# Altium footprint library Common-Parts-Library.PcbLib: 530 footprints (part 32 of 34)
Each footprint in its own frame and in the unit in brackets; x right, y up, seen from the top. Pads: shape width x height; smd on the part's side, far side on the other; paste and mask are expansions set on the pad; w line width, h text height; cw(c..) or ccw(c..) is an arc to the next point about the centre after c.
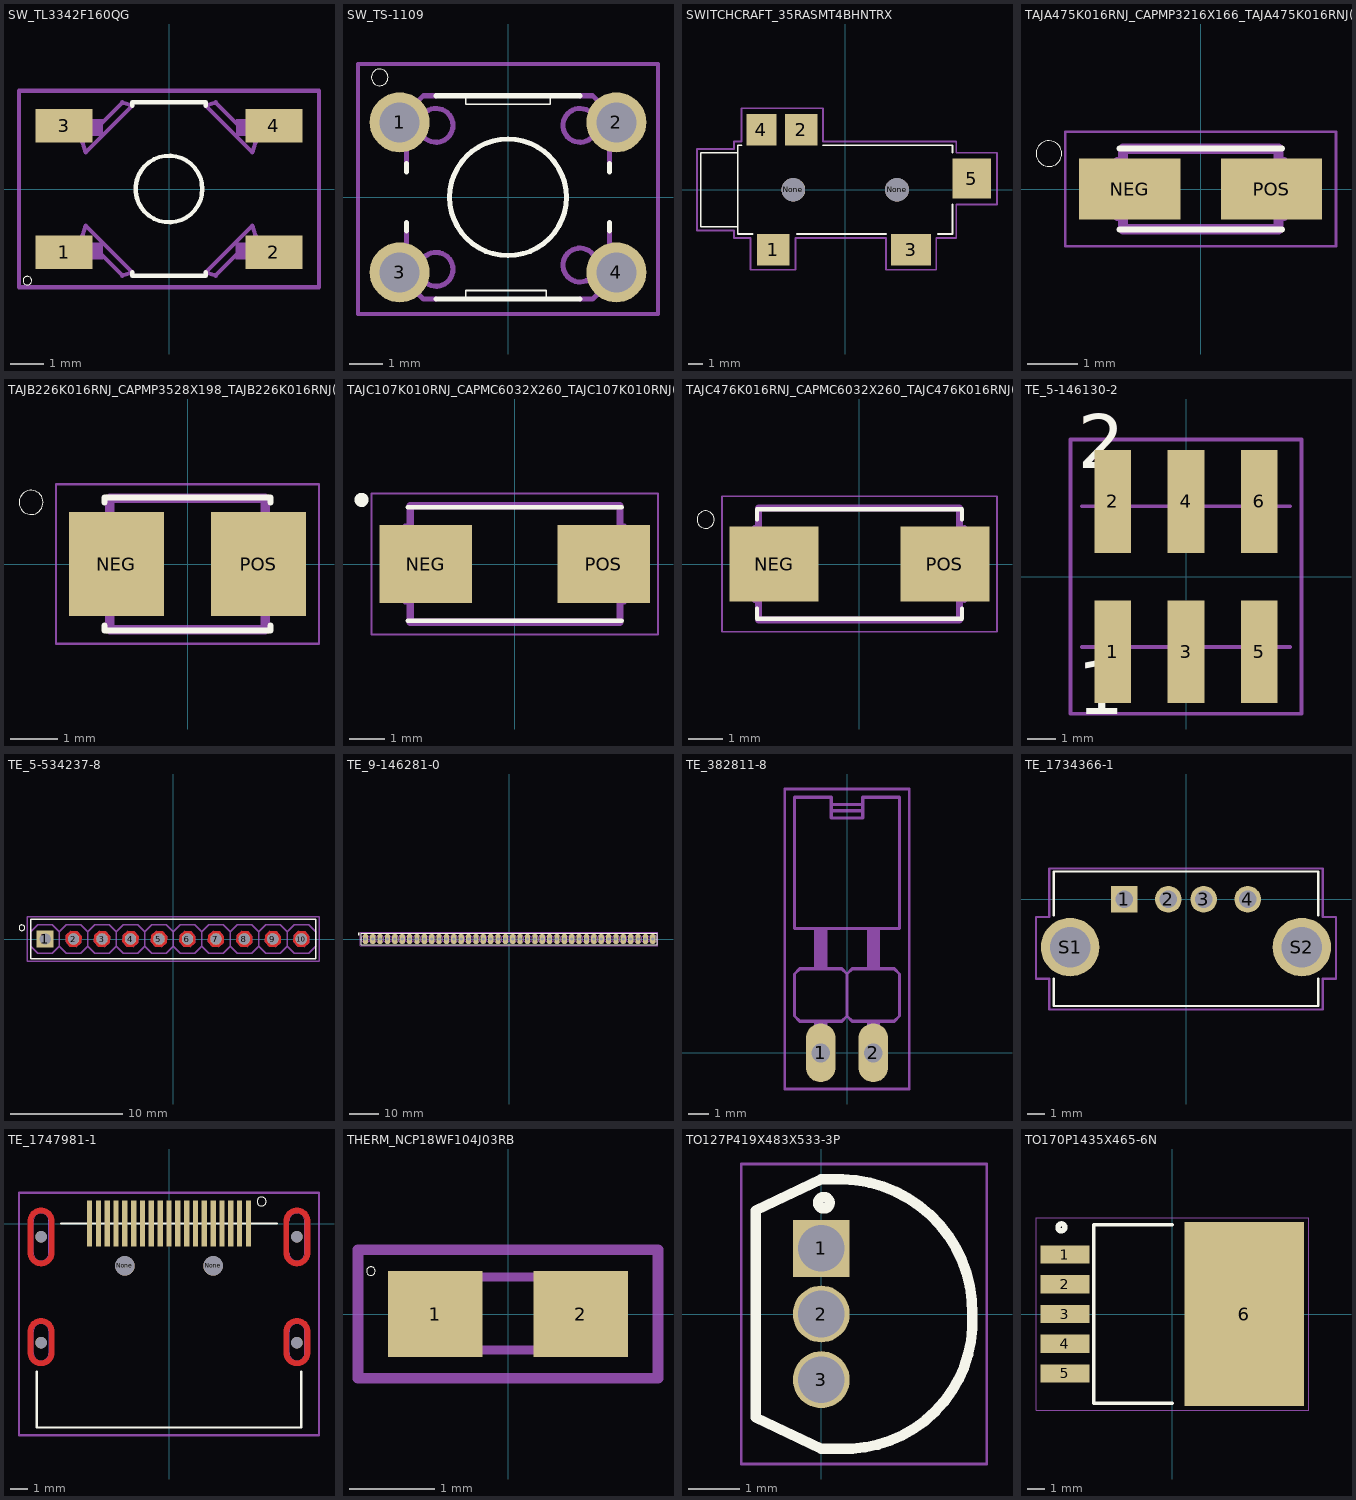
[diagram p31: the footprints below, top view; thin cyan lines are the x and y axes]

## SW_TL3342F160QG [mm]
pads (4):
  rect 1.7x1 smd: 1(-3.15,-1.9) 2(3.15,-1.9) 3(-3.15,1.9) 4(3.15,1.9)
Top Overlay:
  circle w0: c-4.25,-2.75 r0.127
  circle w0.127: c0,0 r1
  lines w0.127: -1.1,-2.5 -1.1,-2.6 1.1,-2.6 1.1,-2.5 ; -1.1,2.5 -1.1,2.6 1.1,2.6 1.1,2.5
Mechanical 1:
  region: 2.007,-1.605 3.205,-1.605 3.205,-2.107 2.007,-2.107
  region: -3.197,-1.605 -1.995,-1.605 -1.995,-2.106 -3.197,-2.106
  region: 2.01,2.095 3.205,2.095 3.205,1.599 2.01,1.599
  region: -3.204,2.095 -1.995,2.095 -1.995,1.599 -3.204,1.599
  lines w0.127: -4.5,-2.95 -4.5,2.95 4.5,2.95 4.5,-2.95 -4.5,-2.95 ; -2.6,-1.4 -2.5,-1.1 -1.1,-2.5 -1.4,-2.6 -2.6,-1.4 ; -2.6,1.4 -2.5,1.1 -1.1,2.5 -1.4,2.6 -2.6,1.4 ; 1.1,-2.5 1.4,-2.6 2.6,-1.4 2.5,-1.1 1.1,-2.5 ; 1.1,2.5 1.4,2.6 2.6,1.4 2.5,1.1 1.1,2.5

## SW_TS-1109 [mm]
pads (4):
  round 1.8 hole 1.2: 1(-3.25,2.25) 2(3.25,2.25) 3(-3.25,-2.25) 4(3.25,-2.25)
Top Overlay:
  circle w0: c-3.85,3.6 r0.25
  circle w0.152: c0,0 r1.75
  lines w0.051: -1.27,-3.048 -1.27,-2.794 1.143,-2.794 1.143,-3.048 ; -1.27,3.048 -1.27,2.794 1.27,2.794 1.27,3.048
  lines w0.152: -3.048,-1.016 -3.048,-0.762 ; -3.048,0.762 -3.048,1.016 ; -2.159,-3.048 -1.27,-3.048 1.143,-3.048 2.159,-3.048 ; -2.159,3.048 -1.27,3.048 1.27,3.048 2.159,3.048 ; 3.048,-1.016 3.048,-0.762 ; 3.048,0.762 3.048,1.016
Mechanical 1:
  circle w0.152: c-2.159,2.159 r0.508
  circle w0.152: c2.159,2.159 r0.508
  circle w0.152: c2.159,-2.032 r0.508
  circle w0.152: c-2.159,-2.159 r0.508
  lines w0.127: -4.5,-3.5 -4.5,4 4.5,4 4.5,-3.5 -4.5,-3.5
  lines w0.152: -3.048,-1.016 -3.048,-2.54 -2.54,-3.048 -2.159,-3.048 ; -3.048,1.016 -3.048,2.54 -2.54,3.048 -2.159,3.048 ; 2.159,-3.048 2.54,-3.048 3.048,-2.54 3.048,-1.016 ; 2.159,3.048 2.54,3.048 3.048,2.54 3.048,1.016

## SWITCHCRAFT_35RASMT4BHNTRX [mm]
pads (7):
  rect 2.2x2.1 smd: 1(-4.85,-4.05) 2(-2.95,4.05)
  rect 2.7x2.1 smd: 3(4.45,-4.05)
  rect 2x2.1 smd: 4(-5.65,4.05)
  rect 2.6x2.7 smd: 5(8.55,0.75)
  round 1.6 hole 1.6 unplated: None(-3.5,0) None(3.5,0)
Top Overlay:
  lines w0.127: -7,3 -7.25,3 -7.25,2.5 ; -6.25,-3 -7.25,-3 -7.25,-2.5 ; -3.25,-3 2.75,-3 ; -1.5,3 7.25,3 7.25,2.5 ; 6.25,-3 7.25,-3 7.25,-1 ; -7.25,-2.5 -9.75,-2.5 -9.75,2.5 -7.25,2.5 ; -7.25,-2.5 -7.25,2.5
Mechanical 1:
  lines w0.127: -10,-2.75 -10,2.75 -7.5,2.75 -7.5,3.25 -7,3.25 -7,5.5 -1.5,5.5 -1.5,3.25 7.5,3.25 7.5,2.5 10.25,2.5 10.25,-1 7.5,-1 7.5,-3.25 6.15,-3.25 6.15,-5.4 2.75,-5.4 2.75,-3.25 -3.35,-3.25 -3.35,-5.4 -6.4,-5.4 -6.4,-3.25 -7.5,-3.25 -7.5,-2.75 -10,-2.75

## TAJA475K016RNJ_CAPMP3216X166_TAJA475K016RNJ(Primary) [mm]
pads (2):
  rect 2x1.2 smd: NEG(-1.4,0) POS(1.4,0)
Top Overlay:
  circle w0: c-3,0.7 r0.254
  lines w0.127: -1.6,-0.8 1.6,-0.8 ; -1.6,0.8 1.6,0.8
Mechanical 1:
  lines w0.051: -2.673,-1.133 -2.673,1.133 2.673,1.133 2.673,-1.133 -2.673,-1.133
  lines w0.152: -1.651,-0.559 -1.651,0.559 ; 1.651,-0.559 1.651,0.559
  lines w0.203: -1.535,-0.798 1.535,-0.798 1.535,0.798 -1.535,0.798 -1.535,-0.798

## TAJB226K016RNJ_CAPMP3528X198_TAJB226K016RNJ(Primary) [mm]
pads (2):
  rect 2x2.2 smd: NEG(-1.5,0) POS(1.5,0)
Top Overlay:
  circle w0: c-3.3,1.3 r0.254
  lines w0.127: -1.75,-1.3 -1.75,-1.4 1.75,-1.4 1.75,-1.3 ; -1.75,1.3 -1.75,1.4 1.75,1.4 1.75,1.3
Mechanical 1:
  lines w0.051: -2.773,-1.683 -2.773,1.683 2.773,1.683 2.773,-1.683 -2.773,-1.683
  lines w0.152: -1.778,-1.016 -1.778,1.016 ; 1.778,-1.016 1.778,1.016
  lines w0.203: -1.637,-1.383 -1.637,1.383 1.637,1.383 1.637,-1.383 -1.637,-1.383

## TAJC107K010RNJ_CAPMC6032X260_TAJC107K010RNJ(Primary) [mm]
pads (2):
  rect 2.6x2.2 smd: NEG(-2.5,0) POS(2.5,0)
Top Overlay:
  circle w0.2: c-4.3,1.8 r0.1
  lines w0.127: -3,-1.6 3,-1.6 ; -3,1.6 3,1.6
Mechanical 1:
  lines w0.051: -4.023,-1.983 -4.023,1.983 4.023,1.983 4.023,-1.983 -4.023,-1.983
  lines w0.152: -3.073,-1.067 -3.073,1.067 ; 3.073,-1.067 3.073,1.067
  lines w0.203: -2.932,-1.637 2.957,-1.637 2.957,1.637 -2.932,1.637 -2.932,-1.637

## TAJC476K016RNJ_CAPMC6032X260_TAJC476K016RNJ(Primary) [mm]
pads (2):
  rect 2.6x2.2 smd: NEG(-2.5,0) POS(2.5,0)
Top Overlay:
  circle w0: c-4.5,1.3 r0.254
  lines w0.127: -3,-1.3 -3,-1.6 3,-1.6 3,-1.3 ; -3,1.3 -3,1.6 3,1.6 3,1.3
Mechanical 1:
  lines w0.051: -4.023,-1.983 -4.023,1.983 4.023,1.983 4.023,-1.983 -4.023,-1.983
  lines w0.152: -3.073,-1.067 -3.073,1.067 ; 3.073,-1.067 3.073,1.067
  lines w0.203: -2.957,-1.637 -2.957,1.637 2.932,1.637 2.932,-1.637 -2.957,-1.637

## TE_5-146130-2 [mm]
pads (6):
  rect 1.27x3.56 smd: 1(-2.54,-2.605) 2(-2.54,2.605) 3(0,-2.605) 4(0,2.605) 5(2.54,-2.605) 6(2.54,2.605)
Top Overlay:
  text "2" at -3.757,3.757 h1.88
  text "1" at -3.759,-4.76 h1.88
Mechanical 1:
  lines w0.127: -3.605,-2.44 3.605,-2.44 ; -3.605,2.44 3.605,2.44 ; -4,-4.75 -4,4.75 4,4.75 4,-4.75 -4,-4.75

## TE_5-534237-8 [mil]
pads (10):
  rect 60x60 hole 40: 1(-450,0)
  round 40 hole 40: 2(-350,0) 3(-250,0) 4(-150,0) 5(-50,0) 6(50,0) 7(150,0) 8(250,0) 9(350,0) 10(450,0)
Top Layer:
  region: 421.81,-10.26 437.32,-27.19 460.26,-28.19 477.19,-12.68 478.19,10.26 462.68,27.19 439.74,28.19 422.81,12.68
  region: 321.81,-10.26 337.32,-27.19 360.26,-28.19 377.19,-12.68 378.19,10.26 362.68,27.19 339.74,28.19 322.81,12.68
  region: 221.81,-10.26 237.32,-27.19 260.26,-28.19 277.19,-12.68 278.19,10.26 262.68,27.19 239.74,28.19 222.81,12.68
  region: 121.81,-10.26 137.32,-27.19 160.26,-28.19 177.19,-12.68 178.19,10.26 162.68,27.19 139.74,28.19 122.81,12.68
  region: 21.81,-10.26 37.32,-27.19 60.26,-28.19 77.19,-12.68 78.19,10.26 62.68,27.19 39.74,28.19 22.81,12.68
  region: -78.19,-10.26 -62.68,-27.19 -39.74,-28.19 -22.81,-12.68 -21.81,10.26 -37.32,27.19 -60.26,28.19 -77.19,12.68
  region: -178.19,-10.26 -162.68,-27.19 -139.74,-28.19 -122.81,-12.68 -121.81,10.26 -137.32,27.19 -160.26,28.19 -177.19,12.68
  region: -278.19,-10.26 -262.68,-27.19 -239.74,-28.19 -222.81,-12.68 -221.81,10.26 -237.32,27.19 -260.26,28.19 -277.19,12.68
  region: -378.19,-10.26 -362.68,-27.19 -339.74,-28.19 -322.81,-12.68 -321.81,10.26 -337.32,27.19 -360.26,28.19 -377.19,12.68
Bottom Layer:
  region: 421.81,-10.26 437.32,-27.19 460.26,-28.19 477.19,-12.68 478.19,10.26 462.68,27.19 439.74,28.19 422.81,12.68
  region: 321.81,-10.26 337.32,-27.19 360.26,-28.19 377.19,-12.68 378.19,10.26 362.68,27.19 339.74,28.19 322.81,12.68
  region: 221.81,-10.26 237.32,-27.19 260.26,-28.19 277.19,-12.68 278.19,10.26 262.68,27.19 239.74,28.19 222.81,12.68
  region: 121.81,-10.26 137.32,-27.19 160.26,-28.19 177.19,-12.68 178.19,10.26 162.68,27.19 139.74,28.19 122.81,12.68
  region: 21.81,-10.26 37.32,-27.19 60.26,-28.19 77.19,-12.68 78.19,10.26 62.68,27.19 39.74,28.19 22.81,12.68
  region: -78.19,-10.26 -62.68,-27.19 -39.74,-28.19 -22.81,-12.68 -21.81,10.26 -37.32,27.19 -60.26,28.19 -77.19,12.68
  region: -178.19,-10.26 -162.68,-27.19 -139.74,-28.19 -122.81,-12.68 -121.81,10.26 -137.32,27.19 -160.26,28.19 -177.19,12.68
  region: -278.19,-10.26 -262.68,-27.19 -239.74,-28.19 -222.81,-12.68 -221.81,10.26 -237.32,27.19 -260.26,28.19 -277.19,12.68
  region: -378.19,-10.26 -362.68,-27.19 -339.74,-28.19 -322.81,-12.68 -321.81,10.26 -337.32,27.19 -360.26,28.19 -377.19,12.68
Top Overlay:
  circle w0: c-531.5,39.37 r10
  lines w5: -500,-70.08 -500,70.08 500,70.08 500,-70.08 -500,-70.08
Mechanical 1:
  region: 441.16,10 460,10 460,-10.03 441.16,-10.03
  region: -460.04,10 -440,10 -440,-10 -460.04,-10
  region: -360.09,10 -340,10 -340,-10 -360.09,-10
  region: -260.55,10 -240,10 -240,-10.02 -260.55,-10.02
  region: -160.1,10 -140,10 -140,-10.01 -160.1,-10.01
  region: -60.07,10 -40,10 -40,-10.01 -60.07,-10.01
  region: 40.03,10 60,10 60,-10.01 40.03,-10.01
  region: 140.36,10 160,10 160,-10.03 140.36,-10.03
  region: 240.72,10 260,10 260,-10.03 240.72,-10.03
  region: 341.15,10 360,10 360,-10.03 341.15,-10.03
  lines w5: -400,-25 -375,-50 -325,-50 -300,-25 ; -400,-25 -425,-50 -475,-50 -500,-25 -500,25 -475,50 -425,50 -400,25 ; -400,-25 -400,25 ; -400,25 -375,50 -325,50 -300,25 ; -300,-25 -300,25 ; -300,-25 -275,-50 -225,-50 -200,-25 ; -300,25 -275,50 -225,50 -200,25 ; -200,-25 -175,-50 -125,-50 -100,-25 ; -200,-25 -200,25 ; -200,25 -175,50 -125,50 -100,25 ; -100,-25 -75,-50 -25,-50 0,-25 ; -100,-25 -100,25 ; -100,25 -75,50 -25,50 0,25 ; 0,-25 0,25 ; 0,-25 25,-50 75,-50 100,-25 ; 0,25 25,50 75,50 100,25 ; 100,-25 125,-50 175,-50 200,-25 ; 100,-25 100,25 ; 100,25 125,50 175,50 200,25 ; 200,-25 225,-50 275,-50 300,-25 ; 200,-25 200,25 ; 200,25 225,50 275,50 300,25 ; 300,-25 300,25 ; 300,-25 325,-50 375,-50 400,-25 ; 300,25 325,50 375,50 400,25 ; 400,-25 425,-50 475,-50 500,-25 500,25 475,50 425,50 400,25 ; 400,-25 400,25 ; -511.81,-78.74 -511.81,78.74 511.81,78.74 511.81,-78.74 -511.81,-78.74
Multi-Layer:
  region: 421.81,-10.26 437.32,-27.19 460.26,-28.19 477.19,-12.68 478.19,10.26 462.68,27.19 439.74,28.19 422.81,12.68
  region: 321.81,-10.26 337.32,-27.19 360.26,-28.19 377.19,-12.68 378.19,10.26 362.68,27.19 339.74,28.19 322.81,12.68
  region: 221.81,-10.26 237.32,-27.19 260.26,-28.19 277.19,-12.68 278.19,10.26 262.68,27.19 239.74,28.19 222.81,12.68
  region: 121.81,-10.26 137.32,-27.19 160.26,-28.19 177.19,-12.68 178.19,10.26 162.68,27.19 139.74,28.19 122.81,12.68
  region: 21.81,-10.26 37.32,-27.19 60.26,-28.19 77.19,-12.68 78.19,10.26 62.68,27.19 39.74,28.19 22.81,12.68
  region: -78.19,-10.26 -62.68,-27.19 -39.74,-28.19 -22.81,-12.68 -21.81,10.26 -37.32,27.19 -60.26,28.19 -77.19,12.68
  region: -178.19,-10.26 -162.68,-27.19 -139.74,-28.19 -122.81,-12.68 -121.81,10.26 -137.32,27.19 -160.26,28.19 -177.19,12.68
  region: -278.19,-10.26 -262.68,-27.19 -239.74,-28.19 -222.81,-12.68 -221.81,10.26 -237.32,27.19 -260.26,28.19 -277.19,12.68
  region: -378.19,-10.26 -362.68,-27.19 -339.74,-28.19 -322.81,-12.68 -321.81,10.26 -337.32,27.19 -360.26,28.19 -377.19,12.68

## TE_9-146281-0 [mm]
pads (40):
  oval 1.8x3.6 hole 1.2: 1(-49.53,0) 2(-46.99,0) 3(-44.45,0) 4(-41.91,0) 5(-39.37,0) 6(-36.83,0) 7(-34.29,0) 8(-31.75,0) 9(-29.21,0) 10(-26.67,0) 11(-24.13,0) 12(-21.59,0) 13(-19.05,0) 14(-16.51,0) 15(-13.97,0) 16(-11.43,0) 17(-8.89,0) 18(-6.35,0) 19(-3.81,0) 20(-1.27,0) 21(1.27,0) 22(3.81,0) 23(6.35,0) 24(8.89,0) 25(11.43,0) 26(13.97,0) 27(16.51,0) 28(19.05,0) 29(21.59,0) 30(24.13,0) 31(26.67,0) 32(29.21,0) 33(31.75,0) 34(34.29,0) 35(36.83,0) 36(39.37,0) 37(41.91,0) 38(44.45,0) 39(46.99,0) 40(49.53,0)
Top Overlay:
  circle w0: c-51.82,1.77 r0.254
  lines w0.127: -51,-2 -51,2 51,2 51,-2 -51,-2
Mechanical 1:
  drawing of 325 lines, arcs and shapes, not listed

## TE_382811-8 [mil]
pads (2):
  oval 56x112 hole 36: 1(-50,0) 2(50,0)
Mechanical 1:
  region: 38.13,60 62,60 62,-10.03 38.13,-10.03
  region: -62.21,60 -38,60 -38,-10.03 -62.21,-10.03
  region: -62.12,235 -38,235 -38,160.32 -62.12,160.32
  region: 38.09,235 62,235 62,160.36 38.09,160.36
  lines w5: -118.11,-68.9 -118.11,501.97 118.11,501.97 118.11,-68.9 -118.11,-68.9
  lines w6: 100,359.69 100,236.22 -100,236.22 -100,486.22 -30,486.22 -30,472.44 ; 100,360 100,486.22 30,486.22 30,472.44 ; -30,460.63 -30,446.85 30,446.85 30,460.63 ; -30,460.63 -30,472.44 ; -30,460.63 30,460.63 ; -30,472.44 30,472.44 ; 0,70 -10,60 -90,60 -100,70 -100,150 -90,160 -10,160 0,150 ; 0,70 10,60 90,60 100,70 100,150 90,160 10,160 0,150 ; 0,70 0,150 ; 30,460.63 30,472.44

## TE_1734366-1 [mm]
pads (6):
  rect 1.508x1.508 hole 1: 1(-3.5,0)
  round 1.508 hole 1: 2(-1,0) 3(1,0) 4(3.5,0)
  round 3.316 hole 2.3: S1(-6.57,-2.71) S2(6.57,-2.71)
Top Overlay:
  lines w0.127: -7.5,-4.5 -7.5,-6.05 7.5,-6.05 7.5,-4.5 ; -7.5,-0.9 -7.5,1.57 7.5,1.57 7.5,-0.9
Mechanical 1:
  lines w0.127: -8.5,-4.5 -8.5,-1 -7.75,-1 -7.75,1.75 7.75,1.75 7.75,-1 8.5,-1 8.5,-4.5 7.75,-4.5 7.75,-6.25 -7.75,-6.25 -7.75,-4.5 -8.5,-4.5

## TE_1747981-1 [mm]
pads (25):
  rect 0.3x2.6 smd: 1(4.5,0) 2(4,0) 3(3.5,0) 4(3,0) 5(2.5,0) 6(2,0) 7(1.5,0) 8(1,0) 9(0.5,0) 10(0,0) 11(-0.5,0) 12(-1,0) 13(-1.5,0) 14(-2,0) 15(-2.5,0) 16(-3,0) 17(-3.5,0) 18(-4,0) 19(-4.5,0)
  round 0.65 hole 0.65 unplated: None(-7.25,-6.75) None(-7.25,-0.75) None(7.25,-6.75) None(7.25,-0.75)
  round 1.1 hole 1.1 unplated: None(-2.5,-2.4) None(2.5,-2.4)
Top Layer:
  region: 7.25,-5.67 7.25,-5.37 7.27,-5.37 7.309,-5.372 7.348,-5.376 7.387,-5.382 7.425,-5.39 7.463,-5.401 7.5,-5.413 7.537,-5.427 7.573,-5.443 7.608,-5.461 7.642,-5.48 7.675,-5.502 7.707,-5.525 7.737,-5.55 7.766,-5.576 7.794,-5.604 7.82,-5.633 7.845,-5.663 7.868,-5.695 7.89,-5.728 7.909,-5.762 7.927,-5.797 7.943,-5.833 7.957,-5.87 7.969,-5.907 7.98,-5.945 7.988,-5.983 7.994,-6.022 7.998,-6.061 8,-6.1 8,-6.12 8,-6.75 8,-7.32 8,-7.34 7.998,-7.379 7.994,-7.418 7.988,-7.457 7.98,-7.495 7.969,-7.533 7.957,-7.57 7.943,-7.607 7.927,-7.643 7.909,-7.678 7.89,-7.712 7.868,-7.745 7.845,-7.777 7.82,-7.807 7.794,-7.836 7.766,-7.864 7.737,-7.89 7.707,-7.915 7.675,-7.938 7.642,-7.96 7.608,-7.979 7.573,-7.997 7.537,-8.013 7.5,-8.027 7.463,-8.039 7.425,-8.05 7.387,-8.058 7.348,-8.064 7.309,-8.068 7.27,-8.07 7.25,-8.07 7.25,-7.77 7.262,-7.77 7.285,-7.769 7.309,-7.766 7.332,-7.763 7.355,-7.758 7.378,-7.752 7.4,-7.744 7.422,-7.736 7.444,-7.726 7.465,-7.716 7.485,-7.704 7.505,-7.691 7.524,-7.677 7.542,-7.662 7.56,-7.647 7.577,-7.63 7.592,-7.612 7.607,-7.594 7.621,-7.575 7.634,-7.555 7.646,-7.535 7.656,-7.514 7.666,-7.492 7.674,-7.47 7.682,-7.448 7.688,-7.425 7.693,-7.402 7.696,-7.379 7.699,-7.355 7.7,-7.332 7.7,-7.32 7.7,-6.75 7.7,-6.12 7.7,-6.108 7.699,-6.085 7.696,-6.061 7.693,-6.038 7.688,-6.015 7.682,-5.992 7.674,-5.97 7.666,-5.948 7.656,-5.926 7.646,-5.905 7.634,-5.885 7.621,-5.865 7.607,-5.846 7.592,-5.828 7.577,-5.81 7.56,-5.793 7.542,-5.778 7.524,-5.763 7.505,-5.749 7.485,-5.736 7.465,-5.724 7.444,-5.714 7.422,-5.704 7.4,-5.696 7.378,-5.688 7.355,-5.682 7.332,-5.677 7.309,-5.674 7.285,-5.671 7.262,-5.67
  region: 7.25,-7.77 7.25,-8.07 7.23,-8.07 7.191,-8.068 7.152,-8.064 7.113,-8.058 7.075,-8.05 7.037,-8.039 7,-8.027 6.963,-8.013 6.927,-7.997 6.892,-7.979 6.858,-7.96 6.825,-7.938 6.793,-7.915 6.763,-7.89 6.734,-7.864 6.706,-7.836 6.679,-7.807 6.655,-7.777 6.632,-7.745 6.61,-7.712 6.591,-7.678 6.573,-7.643 6.557,-7.607 6.543,-7.57 6.531,-7.533 6.52,-7.495 6.512,-7.457 6.506,-7.418 6.502,-7.379 6.5,-7.34 6.5,-7.32 6.5,-6.69 6.5,-6.12 6.5,-6.1 6.502,-6.061 6.506,-6.022 6.512,-5.983 6.52,-5.945 6.531,-5.907 6.543,-5.87 6.557,-5.833 6.573,-5.797 6.591,-5.762 6.61,-5.728 6.632,-5.695 6.655,-5.663 6.679,-5.633 6.706,-5.604 6.734,-5.576 6.763,-5.55 6.793,-5.525 6.825,-5.502 6.858,-5.48 6.892,-5.461 6.927,-5.443 6.963,-5.427 7,-5.413 7.037,-5.401 7.075,-5.39 7.113,-5.382 7.152,-5.376 7.191,-5.372 7.23,-5.37 7.25,-5.37 7.25,-5.67 7.238,-5.67 7.215,-5.671 7.191,-5.674 7.168,-5.677 7.145,-5.682 7.122,-5.688 7.1,-5.696 7.078,-5.704 7.056,-5.714 7.035,-5.724 7.015,-5.736 6.995,-5.749 6.976,-5.763 6.958,-5.778 6.94,-5.793 6.923,-5.81 6.908,-5.828 6.893,-5.846 6.879,-5.865 6.866,-5.885 6.854,-5.905 6.844,-5.926 6.834,-5.948 6.826,-5.97 6.818,-5.992 6.812,-6.015 6.807,-6.038 6.804,-6.061 6.801,-6.085 6.8,-6.108 6.8,-6.12 6.8,-6.69 6.8,-7.32 6.8,-7.332 6.801,-7.355 6.804,-7.379 6.807,-7.402 6.812,-7.425 6.818,-7.448 6.826,-7.47 6.834,-7.492 6.844,-7.514 6.854,-7.535 6.866,-7.555 6.879,-7.575 6.893,-7.594 6.908,-7.612 6.923,-7.63 6.94,-7.647 6.958,-7.662 6.976,-7.677 6.995,-7.691 7.015,-7.704 7.035,-7.716 7.056,-7.726 7.078,-7.736 7.1,-7.744 7.122,-7.752 7.145,-7.758 7.168,-7.763 7.191,-7.766 7.215,-7.769 7.238,-7.77
  region: -7.25,-7.77 -7.25,-8.07 -7.27,-8.07 -7.309,-8.068 -7.348,-8.064 -7.387,-8.058 -7.425,-8.05 -7.463,-8.039 -7.5,-8.027 -7.537,-8.013 -7.573,-7.997 -7.608,-7.979 -7.642,-7.96 -7.675,-7.938 -7.707,-7.915 -7.737,-7.89 -7.766,-7.864 -7.794,-7.836 -7.82,-7.807 -7.845,-7.777 -7.868,-7.745 -7.89,-7.712 -7.909,-7.678 -7.927,-7.643 -7.943,-7.607 -7.957,-7.57 -7.969,-7.533 -7.98,-7.495 -7.988,-7.457 -7.994,-7.418 -7.998,-7.379 -8,-7.34 -8,-7.32 -8,-6.69 -8,-6.12 -8,-6.1 -7.998,-6.061 -7.994,-6.022 -7.988,-5.983 -7.98,-5.945 -7.969,-5.907 -7.957,-5.87 -7.943,-5.833 -7.927,-5.797 -7.909,-5.762 -7.89,-5.728 -7.868,-5.695 -7.845,-5.663 -7.82,-5.633 -7.794,-5.604 -7.766,-5.576 -7.737,-5.55 -7.707,-5.525 -7.675,-5.502 -7.642,-5.48 -7.608,-5.461 -7.573,-5.443 -7.537,-5.427 -7.5,-5.413 -7.463,-5.401 -7.425,-5.39 -7.387,-5.382 -7.348,-5.376 -7.309,-5.372 -7.27,-5.37 -7.25,-5.37 -7.25,-5.67 -7.262,-5.67 -7.285,-5.671 -7.309,-5.674 -7.332,-5.677 -7.355,-5.682 -7.378,-5.688 -7.4,-5.696 -7.422,-5.704 -7.444,-5.714 -7.465,-5.724 -7.485,-5.736 -7.505,-5.749 -7.524,-5.763 -7.542,-5.778 -7.56,-5.793 -7.577,-5.81 -7.592,-5.828 -7.607,-5.846 -7.621,-5.865 -7.634,-5.885 -7.646,-5.905 -7.656,-5.926 -7.666,-5.948 -7.674,-5.97 -7.682,-5.992 -7.688,-6.015 -7.693,-6.038 -7.696,-6.061 -7.699,-6.085 -7.7,-6.108 -7.7,-6.12 -7.7,-6.69 -7.7,-7.32 -7.7,-7.332 -7.699,-7.355 -7.696,-7.379 -7.693,-7.402 -7.688,-7.425 -7.682,-7.448 -7.674,-7.47 -7.666,-7.492 -7.656,-7.514 -7.646,-7.535 -7.634,-7.555 -7.621,-7.575 -7.607,-7.594 -7.592,-7.612 -7.577,-7.63 -7.56,-7.647 -7.542,-7.662 -7.524,-7.677 -7.505,-7.691 -7.485,-7.704 -7.465,-7.716 -7.444,-7.726 -7.422,-7.736 -7.4,-7.744 -7.378,-7.752 -7.355,-7.758 -7.332,-7.763 -7.309,-7.766 -7.285,-7.769 -7.262,-7.77
  region: -7.25,-5.67 -7.25,-5.37 -7.23,-5.37 -7.191,-5.372 -7.152,-5.376 -7.113,-5.382 -7.075,-5.39 -7.037,-5.401 -7,-5.413 -6.963,-5.427 -6.927,-5.443 -6.892,-5.461 -6.858,-5.48 -6.825,-5.502 -6.793,-5.525 -6.763,-5.55 -6.734,-5.576 -6.706,-5.604 -6.679,-5.633 -6.655,-5.663 -6.632,-5.695 -6.61,-5.728 -6.591,-5.762 -6.573,-5.797 -6.557,-5.833 -6.543,-5.87 -6.531,-5.907 -6.52,-5.945 -6.512,-5.983 -6.506,-6.022 -6.502,-6.061 -6.5,-6.1 -6.5,-6.12 -6.5,-6.75 -6.5,-7.32 -6.5,-7.34 -6.502,-7.379 -6.506,-7.418 -6.512,-7.457 -6.52,-7.495 -6.531,-7.533 -6.543,-7.57 -6.557,-7.607 -6.573,-7.643 -6.591,-7.678 -6.61,-7.712 -6.632,-7.745 -6.655,-7.777 -6.679,-7.807 -6.706,-7.836 -6.734,-7.864 -6.763,-7.89 -6.793,-7.915 -6.825,-7.938 -6.858,-7.96 -6.892,-7.979 -6.927,-7.997 -6.963,-8.013 -7,-8.027 -7.037,-8.039 -7.075,-8.05 -7.113,-8.058 -7.152,-8.064 -7.191,-8.068 -7.23,-8.07 -7.25,-8.07 -7.25,-7.77 -7.238,-7.77 -7.215,-7.769 -7.191,-7.766 -7.168,-7.763 -7.145,-7.758 -7.122,-7.752 -7.1,-7.744 -7.078,-7.736 -7.056,-7.726 -7.035,-7.716 -7.015,-7.704 -6.995,-7.691 -6.976,-7.677 -6.958,-7.662 -6.94,-7.647 -6.923,-7.63 -6.908,-7.612 -6.893,-7.594 -6.879,-7.575 -6.866,-7.555 -6.854,-7.535 -6.844,-7.514 -6.834,-7.492 -6.826,-7.47 -6.818,-7.448 -6.812,-7.425 -6.807,-7.402 -6.804,-7.379 -6.801,-7.355 -6.8,-7.332 -6.8,-7.32 -6.8,-6.75 -6.8,-6.12 -6.8,-6.108 -6.801,-6.085 -6.804,-6.061 -6.807,-6.038 -6.812,-6.015 -6.818,-5.992 -6.826,-5.97 -6.834,-5.948 -6.844,-5.926 -6.854,-5.905 -6.866,-5.885 -6.879,-5.865 -6.893,-5.846 -6.908,-5.828 -6.923,-5.81 -6.94,-5.793 -6.958,-5.778 -6.976,-5.763 -6.995,-5.749 -7.015,-5.736 -7.035,-5.724 -7.056,-5.714 -7.078,-5.704 -7.1,-5.696 -7.122,-5.688 -7.145,-5.682 -7.168,-5.677 -7.191,-5.674 -7.215,-5.671 -7.238,-5.67
  region: 7.25,0.59 7.25,0.89 7.27,0.89 7.309,0.888 7.348,0.884 7.387,0.878 7.425,0.87 7.463,0.859 7.5,0.847 7.537,0.833 7.573,0.817 7.608,0.799 7.642,0.78 7.675,0.758 7.707,0.735 7.737,0.711 7.766,0.684 7.794,0.656 7.82,0.627 7.845,0.597 7.868,0.565 7.89,0.532 7.909,0.498 7.927,0.463 7.943,0.427 7.957,0.39 7.969,0.353 7.98,0.315 7.988,0.277 7.994,0.238 7.998,0.199 8,0.16 8,0.14 8,-0.75 8,-1.66 8,-1.68 7.998,-1.719 7.994,-1.758 7.988,-1.797 7.98,-1.835 7.969,-1.873 7.957,-1.91 7.943,-1.947 7.927,-1.983 7.909,-2.018 7.89,-2.052 7.868,-2.085 7.845,-2.117 7.82,-2.147 7.794,-2.176 7.766,-2.204 7.737,-2.231 7.707,-2.255 7.675,-2.278 7.642,-2.3 7.608,-2.319 7.573,-2.337 7.537,-2.353 7.5,-2.367 7.463,-2.379 7.425,-2.39 7.387,-2.398 7.348,-2.404 7.309,-2.408 7.27,-2.41 7.25,-2.41 7.25,-2.11 7.262,-2.11 7.285,-2.109 7.309,-2.106 7.332,-2.103 7.355,-2.098 7.378,-2.092 7.4,-2.084 7.422,-2.076 7.444,-2.066 7.465,-2.056 7.485,-2.044 7.505,-2.031 7.524,-2.017 7.542,-2.002 7.56,-1.987 7.577,-1.97 7.592,-1.952 7.607,-1.934 7.621,-1.915 7.634,-1.895 7.646,-1.875 7.656,-1.854 7.666,-1.832 7.674,-1.81 7.682,-1.788 7.688,-1.765 7.693,-1.742 7.696,-1.719 7.699,-1.695 7.7,-1.672 7.7,-1.66 7.7,-0.75 7.7,0.14 7.7,0.152 7.699,0.175 7.696,0.199 7.693,0.222 7.688,0.245 7.682,0.268 7.674,0.29 7.666,0.312 7.656,0.334 7.646,0.355 7.634,0.375 7.621,0.395 7.607,0.414 7.592,0.432 7.577,0.45 7.56,0.467 7.542,0.482 7.524,0.497 7.505,0.511 7.485,0.524 7.465,0.536 7.444,0.546 7.422,0.556 7.4,0.564 7.378,0.572 7.355,0.578 7.332,0.583 7.309,0.586 7.285,0.589 7.262,0.59
  region: 7.25,-2.11 7.25,-2.41 7.23,-2.41 7.191,-2.408 7.152,-2.404 7.113,-2.398 7.075,-2.39 7.037,-2.379 7,-2.367 6.963,-2.353 6.927,-2.337 6.892,-2.319 6.858,-2.3 6.825,-2.278 6.793,-2.255 6.763,-2.231 6.734,-2.204 6.706,-2.176 6.679,-2.147 6.655,-2.117 6.632,-2.085 6.61,-2.052 6.591,-2.018 6.573,-1.983 6.557,-1.947 6.543,-1.91 6.531,-1.873 6.52,-1.835 6.512,-1.797 6.506,-1.758 6.502,-1.719 6.5,-1.68 6.5,-1.66 6.5,-0.77 6.5,0.14 6.5,0.16 6.502,0.199 6.506,0.238 6.512,0.277 6.52,0.315 6.531,0.353 6.543,0.39 6.557,0.427 6.573,0.463 6.591,0.498 6.61,0.532 6.632,0.565 6.655,0.597 6.679,0.627 6.706,0.656 6.734,0.684 6.763,0.71 6.793,0.735 6.825,0.758 6.858,0.78 6.892,0.799 6.927,0.817 6.963,0.833 7,0.847 7.037,0.859 7.075,0.87 7.113,0.878 7.152,0.884 7.191,0.888 7.23,0.89 7.25,0.89 7.25,0.59 7.238,0.59 7.215,0.589 7.191,0.586 7.168,0.583 7.145,0.578 7.122,0.572 7.1,0.564 7.078,0.556 7.056,0.546 7.035,0.536 7.015,0.524 6.995,0.511 6.976,0.497 6.958,0.482 6.94,0.467 6.923,0.45 6.908,0.432 6.893,0.414 6.879,0.395 6.866,0.375 6.854,0.355 6.844,0.334 6.834,0.312 6.826,0.29 6.818,0.268 6.812,0.245 6.807,0.222 6.804,0.199 6.801,0.175 6.8,0.152 6.8,0.14 6.8,-0.77 6.8,-1.66 6.8,-1.672 6.801,-1.695 6.804,-1.719 6.807,-1.742 6.812,-1.765 6.818,-1.788 6.826,-1.81 6.834,-1.832 6.844,-1.854 6.854,-1.875 6.866,-1.895 6.879,-1.915 6.893,-1.934 6.908,-1.952 6.923,-1.97 6.94,-1.987 6.958,-2.002 6.976,-2.017 6.995,-2.031 7.015,-2.044 7.035,-2.056 7.056,-2.066 7.078,-2.076 7.1,-2.084 7.122,-2.092 7.145,-2.098 7.168,-2.103 7.191,-2.106 7.215,-2.109 7.238,-2.11
  region: -7.25,-2.11 -7.25,-2.41 -7.27,-2.41 -7.309,-2.408 -7.348,-2.404 -7.387,-2.398 -7.425,-2.39 -7.463,-2.379 -7.5,-2.367 -7.537,-2.353 -7.573,-2.337 -7.608,-2.319 -7.642,-2.3 -7.675,-2.278 -7.707,-2.255 -7.737,-2.231 -7.766,-2.204 -7.794,-2.176 -7.82,-2.147 -7.845,-2.117 -7.868,-2.085 -7.89,-2.052 -7.909,-2.018 -7.927,-1.983 -7.943,-1.947 -7.957,-1.91 -7.969,-1.873 -7.98,-1.835 -7.988,-1.797 -7.994,-1.758 -7.998,-1.719 -8,-1.68 -8,-1.66 -8,-0.77 -8,0.14 -8,0.16 -7.998,0.199 -7.994,0.238 -7.988,0.277 -7.98,0.315 -7.969,0.353 -7.957,0.39 -7.943,0.427 -7.927,0.463 -7.909,0.498 -7.89,0.532 -7.868,0.565 -7.845,0.597 -7.82,0.627 -7.794,0.656 -7.766,0.684 -7.737,0.71 -7.707,0.735 -7.675,0.758 -7.642,0.78 -7.608,0.799 -7.573,0.817 -7.537,0.833 -7.5,0.847 -7.463,0.859 -7.425,0.87 -7.387,0.878 -7.348,0.884 -7.309,0.888 -7.27,0.89 -7.25,0.89 -7.25,0.59 -7.262,0.59 -7.285,0.589 -7.309,0.586 -7.332,0.583 -7.355,0.578 -7.378,0.572 -7.4,0.564 -7.422,0.556 -7.444,0.546 -7.465,0.536 -7.485,0.524 -7.505,0.511 -7.524,0.497 -7.542,0.482 -7.56,0.467 -7.577,0.45 -7.592,0.432 -7.607,0.414 -7.621,0.395 -7.634,0.375 -7.646,0.355 -7.656,0.334 -7.666,0.312 -7.674,0.29 -7.682,0.268 -7.688,0.245 -7.693,0.222 -7.696,0.199 -7.699,0.175 -7.7,0.152 -7.7,0.14 -7.7,-0.77 -7.7,-1.66 -7.7,-1.672 -7.699,-1.695 -7.696,-1.719 -7.693,-1.742 -7.688,-1.765 -7.682,-1.788 -7.674,-1.81 -7.666,-1.832 -7.656,-1.854 -7.646,-1.875 -7.634,-1.895 -7.621,-1.915 -7.607,-1.934 -7.592,-1.952 -7.577,-1.97 -7.56,-1.987 -7.542,-2.002 -7.524,-2.017 -7.505,-2.031 -7.485,-2.044 -7.465,-2.056 -7.444,-2.066 -7.422,-2.076 -7.4,-2.084 -7.378,-2.092 -7.355,-2.098 -7.332,-2.103 -7.309,-2.106 -7.285,-2.109 -7.262,-2.11
  region: -7.25,0.59 -7.25,0.89 -7.23,0.89 -7.191,0.888 -7.152,0.884 -7.113,0.878 -7.075,0.87 -7.037,0.859 -7,0.847 -6.963,0.833 -6.927,0.817 -6.892,0.799 -6.858,0.78 -6.825,0.758 -6.793,0.735 -6.763,0.711 -6.734,0.684 -6.706,0.656 -6.679,0.627 -6.655,0.597 -6.632,0.565 -6.61,0.532 -6.591,0.498 -6.573,0.463 -6.557,0.427 -6.543,0.39 -6.531,0.353 -6.52,0.315 -6.512,0.277 -6.506,0.238 -6.502,0.199 -6.5,0.16 -6.5,0.14 -6.5,-0.75 -6.5,-1.66 -6.5,-1.68 -6.502,-1.719 -6.506,-1.758 -6.512,-1.797 -6.52,-1.835 -6.531,-1.873 -6.543,-1.91 -6.557,-1.947 -6.573,-1.983 -6.591,-2.018 -6.61,-2.052 -6.632,-2.085 -6.655,-2.117 -6.679,-2.147 -6.706,-2.176 -6.734,-2.204 -6.763,-2.231 -6.793,-2.255 -6.825,-2.278 -6.858,-2.3 -6.892,-2.319 -6.927,-2.337 -6.963,-2.353 -7,-2.367 -7.037,-2.379 -7.075,-2.39 -7.113,-2.398 -7.152,-2.404 -7.191,-2.408 -7.23,-2.41 -7.25,-2.41 -7.25,-2.11 -7.238,-2.11 -7.215,-2.109 -7.191,-2.106 -7.168,-2.103 -7.145,-2.098 -7.122,-2.092 -7.1,-2.084 -7.078,-2.076 -7.056,-2.066 -7.035,-2.056 -7.015,-2.044 -6.995,-2.031 -6.976,-2.017 -6.958,-2.002 -6.94,-1.987 -6.923,-1.97 -6.908,-1.952 -6.893,-1.934 -6.879,-1.915 -6.866,-1.895 -6.854,-1.875 -6.844,-1.854 -6.834,-1.832 -6.826,-1.81 -6.818,-1.788 -6.812,-1.765 -6.807,-1.742 -6.804,-1.719 -6.801,-1.695 -6.8,-1.672 -6.8,-1.66 -6.8,-0.75 -6.8,0.14 -6.8,0.152 -6.801,0.175 -6.804,0.199 -6.807,0.222 -6.812,0.245 -6.818,0.268 -6.826,0.29 -6.834,0.312 -6.844,0.334 -6.854,0.355 -6.866,0.375 -6.879,0.395 -6.893,0.414 -6.908,0.432 -6.923,0.45 -6.94,0.467 -6.958,0.482 -6.976,0.497 -6.995,0.511 -7.015,0.524 -7.035,0.536 -7.056,0.546 -7.078,0.556 -7.1,0.564 -7.122,0.572 -7.145,0.578 -7.168,0.583 -7.191,0.586 -7.215,0.589 -7.238,0.59
Top Overlay:
  circle w0: c5.25,1.25 r0.254
  lines w0.127: -7.5,-8.4 -7.5,-11.55 7.5,-11.55 7.5,-8.4 ; -6.1,0 6.1,0
Top Paste:
  drawing of 8 lines, arcs and shapes, not listed
Top Solder:
  region: 6.407,1 8.1,1 8.1,-2.503 6.407,-2.503
  region: -8.104,1 -6.4,1 -6.4,-2.501 -8.104,-2.501
  region: 6.415,-5.25 8.1,-5.25 8.1,-8.169 6.415,-8.169
  region: -8.104,-5.25 -6.4,-5.25 -6.4,-8.154 -8.104,-8.154
Mechanical 1:
  lines w0.01: -7.7,-1.66 ccw(c-7.25,-1.66) -7.25,-2.11 ccw(c-7.25,-1.661) -6.8,-1.661 -6.8,0.14 ccw(c-7.25,0.14) -7.25,0.59 ccw(c-7.25,0.139) -7.7,0.139 -7.7,-1.66 ; -7.699,-7.32 ccw(c-7.249,-7.32) -7.249,-7.77 ccw(c-7.249,-7.321) -6.799,-7.321 -6.799,-6.12 ccw(c-7.249,-6.12) -7.249,-5.67 ccw(c-7.249,-6.121) -7.699,-6.121 -7.699,-7.32 ; 6.8,-1.66 ccw(c7.25,-1.66) 7.25,-2.11 ccw(c7.25,-1.661) 7.7,-1.661 7.7,0.14 ccw(c7.25,0.14) 7.25,0.59 ccw(c7.25,0.139) 6.8,0.139 6.8,-1.66 ; 6.801,-7.32 ccw(c7.251,-7.32) 7.251,-7.77 ccw(c7.251,-7.321) 7.701,-7.321 7.701,-6.12 ccw(c7.251,-6.12) 7.251,-5.67 ccw(c7.251,-6.121) 6.801,-6.121 6.801,-7.32
  lines w0.127: -8.5,-12 -8.5,1.75 8.5,1.75 8.5,-12 -8.5,-12

## THERM_NCP18WF104J03RB [mm]
pads (2):
  rect 1.1x1 smd: 1(-0.85,0) 2(0.85,0)
Top Overlay:
  circle w0: c-1.6,0.5 r0.05
Mechanical 1:
  region: 0.331,0.48 0.83,0.48 0.83,-0.471 0.331,-0.471
  region: -0.838,0.48 -0.338,0.48 -0.338,-0.47 -0.838,-0.47
  lines w0.102: -0.356,-0.419 0.356,-0.419 ; -0.356,0.432 0.356,0.432
  lines w0.127: -1.75,-0.75 1.75,-0.75 1.75,0.75 -1.75,0.75 -1.75,-0.75

## TO127P419X483X533-3P [mm]
pads (3):
  rect 1.1x1.1 hole 0.9: 1(0,1.27)
  round 1.1 hole 0.9: 2(0,0) 3(0,-1.27)
Top Overlay:
  circle w0.2: c0.05,2.15 r0.112
  lines w0.2: 0.4,2.605 0,2.605 -1.27,2 -1.27,-2 0,-2.605 0.6,-2.605 ; 0.402,2.605 cw(c0.357,0.042) 2.92,-0.002 ; 0.587,-2.606 ccw(c0.457,-0.142) 2.921,-0.013
Mechanical 1:
  lines w0.05: -1.55,-2.9 -1.55,2.9 3.2,2.9 3.2,-2.9 -1.55,-2.9

## TO170P1435X465-6N [mm]
pads (6):
  rect 2.8x1.05 smd: 1(-6.15,3.4) 2(-6.15,1.7) 3(-6.15,0) 4(-6.15,-1.7) 5(-6.15,-3.4)
  rect 6.85x10.5 smd: 6(4.1,0)
Top Overlay:
  circle w0.3: c-6.35,4.953 r0.2
  lines w0.2: 0,-5.1 -4.5,-5.1 -4.5,5.1 0,5.1
Top Paste:
  region: 3.366,-3.25 4.64,-3.25 4.64,-4.759 3.366,-4.759
  region: 3.362,-1.25 4.64,-1.25 4.64,-2.752 3.362,-2.752
  region: 3.363,0.75 4.64,0.75 4.64,-0.751 3.363,-0.751
  region: 5.367,-3.25 6.64,-3.25 6.64,-4.756 5.367,-4.756
  region: 5.364,-1.25 6.64,-1.25 6.64,-2.752 5.364,-2.752
  region: 5.365,0.75 6.64,0.75 6.64,-0.751 5.365,-0.751
  region: 5.367,2.75 6.64,2.75 6.64,1.252 5.367,1.252
  region: 3.366,2.75 4.64,2.75 4.64,1.252 3.366,1.252
  region: 1.362,-3.25 2.64,-3.25 2.64,-4.758 1.362,-4.758
  region: 1.362,-1.25 2.64,-1.25 2.64,-2.753 1.362,-2.753
  region: 1.364,0.75 2.64,0.75 2.64,-0.752 1.364,-0.752
  region: 1.364,2.75 2.64,2.75 2.64,1.253 1.364,1.253
  region: 5.363,4.75 6.64,4.75 6.64,3.252 5.363,3.252
  region: 3.37,4.75 4.64,4.75 4.64,3.26 3.37,3.26
  region: 1.363,4.75 2.64,4.75 2.64,3.256 1.363,3.256
Mechanical 1:
  lines w0.05: -7.8,-5.5 -7.8,5.5 7.8,5.5 7.8,-5.5 -7.8,-5.5